# EAGLE library part WF3.0-2X12 (library Insight Solutions-Connectors)
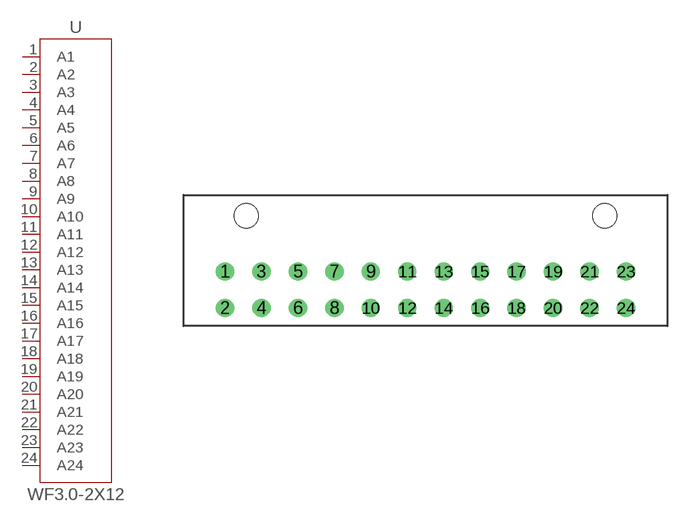
[diagram p3: symbol with the pads of WF3.0-2X12; footprint WF3.0-2X12]

Designator prefix U

## WF3.0-2X12-24PIN  [WF3.0-2X12]
1  A1  pas
2  A2  pas
3  A3  pas
4  A4  pas
5  A5  pas
6  A6  pas
7  A7  pas
8  A8  pas
9  A9  pas
10  A10  pas
11  A11  pas
12  A12  pas
13  A13  pas
14  A14  pas
15  A15  pas
16  A16  pas
17  A17  pas
18  A18  pas
19  A19  pas
20  A20  pas
21  A21  pas
22  A22  pas
23  A23  pas
24  A24  pas

## Footprint WF3.0-2X12 (pad centres in mm)
drill 1: 1 -16.5,1.5; 2 -16.5,-1.5; 3 -13.5,1.5; 4 -13.5,-1.5; 5 -10.5,1.5; 6 -10.5,-1.5; 7 -7.5,1.5; 8 -7.5,-1.5; 9 -4.5,1.5; 10 -4.5,-1.5; 11 -1.5,1.5; 12 -1.5,-1.5; 13 1.5,1.5; 14 1.5,-1.5; 15 4.5,1.5; 16 4.5,-1.5; 17 7.5,1.5; 18 7.5,-1.5; 19 10.5,1.5; 20 10.5,-1.5; 21 13.5,1.5; 22 13.5,-1.5; 23 16.5,1.5; 24 16.5,-1.5
hole 2 at -14.75,6.1
hole 2 at 14.75,6.1